# Altium schematic symbol library RPI_CAMERA.SchLib: 1 symbol
Pins are listed as number, name and electrical type; pins without a type are passive.

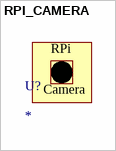
[diagram p0: symbol RPI_CAMERA]

## RPI_CAMERA
designator U?
text: RPi; Camera